# EAGLE library part WE-RJ45_7499031120A (library 74980104400_Eagle_WE-RJ45_rev19b)
WE-RJ45 LAN Transformer Characteristics RJ45 Connector with integrated transformer / common mode choke Power over Ethernet up to 50 Watt and speeds up to 10 Gbit/s Available in SMD, THT and THT with USB Compliant with standards: IEEE 802.3u, IEEE 802.3ab, IEEE 802.3af, IEEE 802.3at, IEEE 802.3an and upcoming IEE 802.3bt Applications Suitable for industrial temperatures from –40 °C up to +85 °C Compatible to Industrial Ethernet systems like EtherCAT or Profinet Compliant with most IC’s for Ethernet applications such as Microchip, Texas Instruments, Broadcom, Linear Technology Hubs, Routers, Switches, IP cameras, IoT applications <https://katalog.we-online.com/media/images/v2/o35731v209%20Family_WE-RJ45-LAN.jpg> Details see: https://katalog.we-online.com/en/pbs/WE-LAN-RJ45 Updated by Ella Wu 2019-08-05 2019 (C) Wurth Elektronik
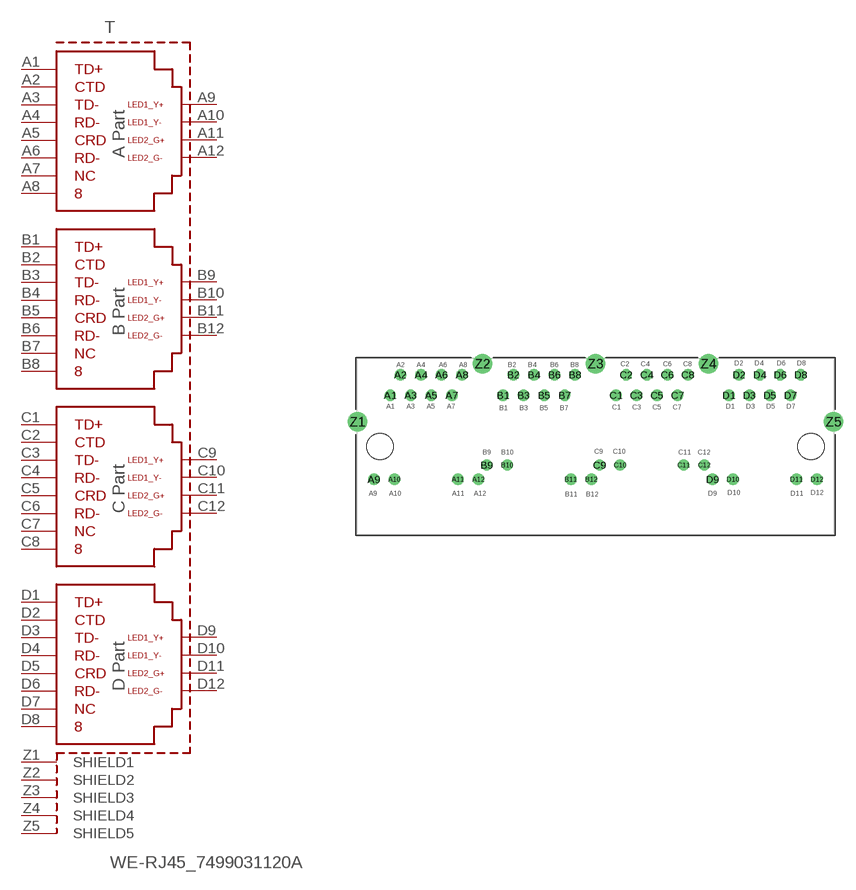
[diagram p38: symbol with the pads of 7499031120A; footprint 7499031120A]

Designator prefix T

## WE-RJ45_7499031120A (DATA-RATE: 10/100 Base-T; DATASHEET-URL: https://katalog.we-online.com/pbs/datasheet/7499031120A.pdf; LED: yellow-green; MOUNT: THT; PART-NUMBER: 7499031120A; POE: non-PoE; PORTS: 1x4; USB: No)  [7499031120A]
A1  A1
A2  A2
A3  A3
A4  A4
A5  A5
A6  A6
A7  A7  pas
A8  A8
A9  A9  pas
A10  A10  pas
A11  A11  pas
A12  A12  pas
B1  B1
B2  B2
B3  B3
B4  B4
B5  B5
B6  B6
B7  B7  pas
B8  B8
B9  B9  pas
B10  B10  pas
B11  B11  pas
B12  B12  pas
C1  C1
C2  C2
C3  C3
C4  C4
C5  C5
C6  C6
C7  C7  pas
C8  C8
C9  C9
C10  C10
C11  C11
C12  C12
D1  D1
D2  D2
D3  D3
D4  D4
D5  D5
D6  D6
D7  D7  pas
D8  D8
D9  D9
D10  D10
D11  D11
D12  D12
Z1  SHIELD1  pwr
Z2  SHIELD2  pwr
Z3  SHIELD3  pwr
Z4  SHIELD4  pwr
Z5  SHIELD5  pwr

## Footprint 7499031120A (pad centres in mm)
WE-RJ45 LAN Transformer 10/100 Base-T
drill 0.9: A1 -25.4,6.35; A2 -24.13,8.89; A3 -22.86,6.35; A4 -21.59,8.89; A5 -20.32,6.35; A6 -19.05,8.89; A7 -17.78,6.35; A8 -16.51,8.89; B1 -11.43,6.35; B2 -10.16,8.89; B3 -8.89,6.35; B4 -7.62,8.89; B5 -6.35,6.35; B6 -5.08,8.89; B7 -3.81,6.35; B8 -2.54,8.89; C1 2.54,6.35; C2 3.81,8.89; C3 5.08,6.35; C4 6.35,8.89; C5 7.62,6.35; C6 8.89,8.89; C7 10.16,6.35; C8 11.43,8.89; D1 16.51,6.35; D2 17.78,8.89; D3 19.05,6.35; D4 20.32,8.89; D5 21.59,6.35; D6 22.86,8.89; D7 24.13,6.35; D8 25.4,8.89
drill 0.89: A9 -27.42,-4.06; A10 -24.88,-4.06; A11 -17.02,-4.06; A12 -14.48,-4.06; B9 -13.46,-2.29; B10 -10.92,-2.29; B11 -3.05,-4.06; B12 -0.51,-4.06; C9 0.51,-2.29; C10 3.05,-2.29; C11 10.92,-2.29; C12 13.46,-2.29; D9 14.48,-4.06; D10 17.02,-4.06; D11 24.88,-4.06; D12 27.42,-4.06
drill 1.63: Z1 -29.455,3.05; Z2 -13.97,10.24; Z3 0,10.24; Z4 13.97,10.24; Z5 29.455,3.05
hole 3.25 at -26.67,0
hole 3.25 at 26.67,0